# Altium schematic symbol library Potentiometer.SchLib: 1 symbol
Pins are listed as number, name and electrical type; pins without a type are passive.

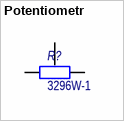
[diagram p0: symbol Potentiometr]

## Potentiometr
designator R?, comment 3296W-1
Trimming Potentiometer; Наименование: 3296W-1-504; Values: 500k; Назначение: Potentiometer
footprint 3269W-1
pins: 1, 2 (power) "Output Adjust", 3